# Altium schematic symbol library XH-5AW.SchLib: 1 symbol
Pins are listed as number, name and electrical type; pins without a type are passive.

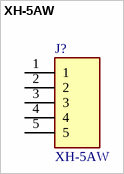
[diagram p0: symbol XH-5AW]

## XH-5AW
designator J?
1x5P XH 1 2.54mm Male pin 5 -25℃~+85℃ 3A Shrouded Push-Pull,P=2.54mm Wire To Board / Wire To Wire Connector ROHS
pins: 1, 2, 3, 4, 5